# EAGLE library part PIC32MZ2048EFM144 (library PIC32MZ)
144-pin Microchip PIC32MZ2048EFM144 microcontroller, LQFP
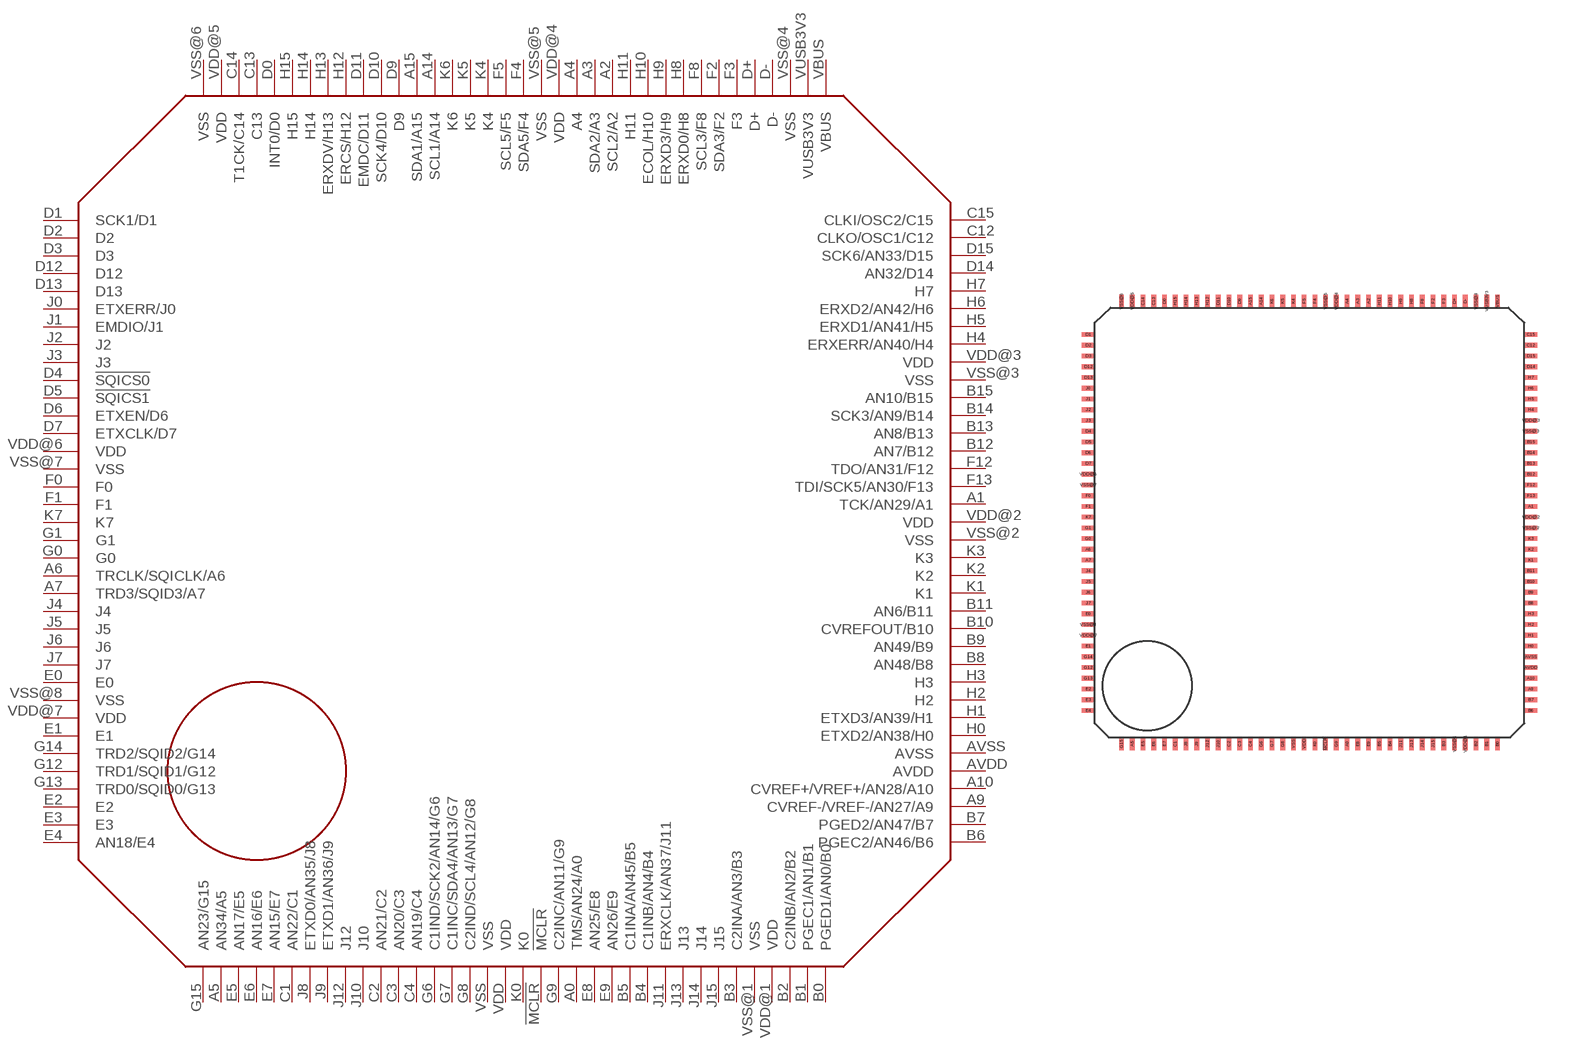
[diagram p0: symbol with the pads of LQFP-144; footprint LQFP-144]

Designator prefix -

## PIC32MZ2048EFM144  [LQFP-144]
!MCLR  !MCLR
A0  TMS/AN24/A0
A1  TCK/AN29/A1
A2  SCL2/A2
A3  SDA2/A3
A4  A4
A5  AN34/A5
A6  TRCLK/SQICLK/A6
A7  TRD3/SQID3/A7
A9  CVREF-/VREF-/AN27/A9
A10  CVREF+/VREF+/AN28/A10
A14  SCL1/A14
A15  SDA1/A15
AVDD  AVDD
AVSS  AVSS
B0  PGED1/AN0/B0
B1  PGEC1/AN1/B1
B2  C2INB/AN2/B2
B3  C2INA/AN3/B3
B4  C1INB/AN4/B4
B5  C1INA/AN45/B5
B6  PGEC2/AN46/B6
B7  PGED2/AN47/B7
B8  AN48/B8
B9  AN49/B9
B10  CVREFOUT/B10
B11  AN6/B11
B12  AN7/B12
B13  AN8/B13
B14  SCK3/AN9/B14
B15  AN10/B15
C1  AN22/C1
C2  AN21/C2
C3  AN20/C3
C4  AN19/C4
C12  CLKO/OSC1/C12
C13  C13
C14  T1CK/C14
C15  CLKI/OSC2/C15
D0  INT0/D0
D1  SCK1/D1
D2  D2
D3  D3
D4  !SQICS0
D5  !SQICS1
D6  ETXEN/D6
D7  ETXCLK/D7
D9  D9
D10  SCK4/D10
D11  EMDC/D11
D12  D12
D13  D13
D14  AN32/D14
D15  SCK6/AN33/D15
D+  D+
D-  D-
E0  E0
E1  E1
E2  E2
E3  E3
E4  AN18/E4
E5  AN17/E5
E6  AN16/E6
E7  AN15/E7
E8  AN25/E8
E9  AN26/E9
F0  F0
F1  F1
F2  SDA3/F2
F3  F3
F4  SDA5/F4
F5  SCL5/F5
F8  SCL3/F8
F12  TDO/AN31/F12
F13  TDI/SCK5/AN30/F13
G0  G0
G1  G1
G6  C1IND/SCK2/AN14/G6
G7  C1INC/SDA4/AN13/G7
G8  C2IND/SCL4/AN12/G8
G9  C2INC/AN11/G9
G12  TRD1/SQID1/G12
G13  TRD0/SQID0/G13
G14  TRD2/SQID2/G14
G15  AN23/G15
H0  ETXD2/AN38/H0
H1  ETXD3/AN39/H1
H2  H2
H3  H3
H4  ERXERR/AN40/H4
H5  ERXD1/AN41/H5
H6  ERXD2/AN42/H6
H7  H7
H8  ERXD0/H8
H9  ERXD3/H9
H10  ECOL/H10
H11  H11
H12  ERCS/H12
H13  ERXDV/H13
H14  H14
H15  H15
J0  ETXERR/J0
J1  EMDIO/J1
J2  J2
J3  J3
J4  J4
J5  J5
J6  J6
J7  J7
J8  ETXD0/AN35/J8
J9  ETXD1/AN36/J9
J10  J10
J11  ERXCLK/AN37/J11
J12  J12
J13  J13
J14  J14
J15  J15
K0  K0
K1  K1
K2  K2
K3  K3
K4  K4
K5  K5
K6  K6
K7  K7
VBUS  VBUS
VDD  VDD
VDD@1  VDD
VDD@2  VDD
VDD@3  VDD
VDD@4  VDD
VDD@5  VDD
VDD@6  VDD
VDD@7  VDD
VSS  VSS
VSS@1  VSS
VSS@2  VSS
VSS@3  VSS
VSS@4  VSS
VSS@5  VSS
VSS@6  VSS
VSS@7  VSS
VSS@8  VSS
VUSB3V3  VUSB3V3

## Footprint LQFP-144 (pad centres in mm)
smd 0.22 x 0.6: !MCLR 0.7,-10.3; A0 1.7,-10.3; A2 2.7,10.3; A3 2.2,10.3; A4 1.7,10.3; A5 -8.3,-10.3; A14 -2.3,10.3; A15 -2.8,10.3; B0 8.7,-10.3; B1 8.2,-10.3; B2 7.7,-10.3; B3 6.2,-10.3; B4 3.7,-10.3; B5 3.2,-10.3; C1 -6.3,-10.3; C2 -3.8,-10.3; C3 -3.3,-10.3; C4 -2.8,-10.3; C13 -7.3,10.3; C14 -7.8,10.3; D0 -6.8,10.3; D9 -3.3,10.3; D10 -3.8,10.3; D11 -4.3,10.3; D+ 6.7,10.3; D- 7.2,10.3; E5 -7.8,-10.3; E6 -7.3,-10.3; E7 -6.8,-10.3; E8 2.2,-10.3; E9 2.7,-10.3; F2 5.7,10.3; F3 6.2,10.3; F4 0.2,10.3; F5 -0.3,10.3; F8 5.2,10.3; G6 -2.3,-10.3; G7 -1.8,-10.3; G8 -1.3,-10.3; G9 1.2,-10.3; G15 -8.8,-10.3; H8 4.7,10.3; H9 4.2,10.3; H10 3.7,10.3; H11 3.2,10.3; H12 -4.8,10.3; H13 -5.3,10.3; H14 -5.8,10.3; H15 -6.3,10.3; J8 -5.8,-10.3; J9 -5.3,-10.3; J10 -4.3,-10.3; J11 4.2,-10.3; J12 -4.8,-10.3; J13 4.7,-10.3; J14 5.2,-10.3; J15 5.7,-10.3; K0 0.2,-10.3; K4 -0.8,10.3; K5 -1.3,10.3; K6 -1.8,10.3; VBUS 8.7,10.3; VDD -0.3,-10.3; VDD@1 7.2,-10.3; VDD@4 1.2,10.3; VDD@5 -8.3,10.3; VSS -0.8,-10.3; VSS@1 6.7,-10.3; VSS@4 7.7,10.3; VSS@5 0.7,10.3; VSS@6 -8.8,10.3; VUSB3V3 8.2,10.3
smd 0.6 x 0.22: A1 10.25,0.75; A6 -10.35,-1.25; A7 -10.35,-1.75; A9 10.25,-7.75; A10 10.25,-7.25; AVDD 10.25,-6.75; AVSS 10.25,-6.25; B6 10.25,-8.75; B7 10.25,-8.25; B8 10.25,-3.75; B9 10.25,-3.25; B10 10.25,-2.75; B11 10.25,-2.25; B12 10.25,2.25; B13 10.25,2.75; B14 10.25,3.25; B15 10.25,3.75; C12 10.25,8.25; C15 10.25,8.75; D1 -10.35,8.75; D2 -10.35,8.25; D3 -10.35,7.75; D4 -10.35,4.25; D5 -10.35,3.75; D6 -10.35,3.25; D7 -10.35,2.75; D12 -10.35,7.25; D13 -10.35,6.75; D14 10.25,7.25; D15 10.25,7.75; E0 -10.35,-4.25; E1 -10.35,-5.75; E2 -10.35,-7.75; E3 -10.35,-8.25; E4 -10.35,-8.75; F0 -10.35,1.25; F1 -10.35,0.75; F12 10.25,1.75; F13 10.25,1.25; G0 -10.35,-0.75; G1 -10.35,-0.25; G12 -10.35,-6.75; G13 -10.35,-7.25; G14 -10.35,-6.25; H0 10.25,-5.75; H1 10.25,-5.25; H2 10.25,-4.75; H3 10.25,-4.25; H4 10.25,5.25; H5 10.25,5.75; H6 10.25,6.25; H7 10.25,6.75; J0 -10.35,6.25; J1 -10.35,5.75; J2 -10.35,5.25; J3 -10.35,4.75; J4 -10.35,-2.25; J5 -10.35,-2.75; J6 -10.35,-3.25; J7 -10.35,-3.75; K1 10.25,-1.75; K2 10.25,-1.25; K3 10.25,-0.75; K7 -10.35,0.25; VDD@2 10.25,0.25; VDD@3 10.25,4.75; VDD@6 -10.35,2.25; VDD@7 -10.35,-5.25; VSS@2 10.25,-0.25; VSS@3 10.25,4.25; VSS@7 -10.35,1.75; VSS@8 -10.35,-4.75